# Altium schematic symbol library Schlib1.SchLib: 1 symbol
Pins are listed as number, name and electrical type; pins without a type are passive.

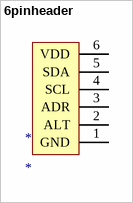
[diagram p0: symbol 6pinheader]

## 6pinheader
designator *
footprint 6pinheader
pins: 1 GND, 2 ALT, 3 ADR, 4 SCL, 5 SDA, 6 VDD